# Altium footprint library NON-PCB.PCBLIB: 33 footprints (part 1 of 3)
Each footprint in its own frame and in the unit in brackets; x right, y up, seen from the top. Pads: shape width x height; smd on the part's side, far side on the other; paste and mask are expansions set on the pad; w line width, h text height; cw(c..) or ccw(c..) is an arc to the next point about the centre after c.
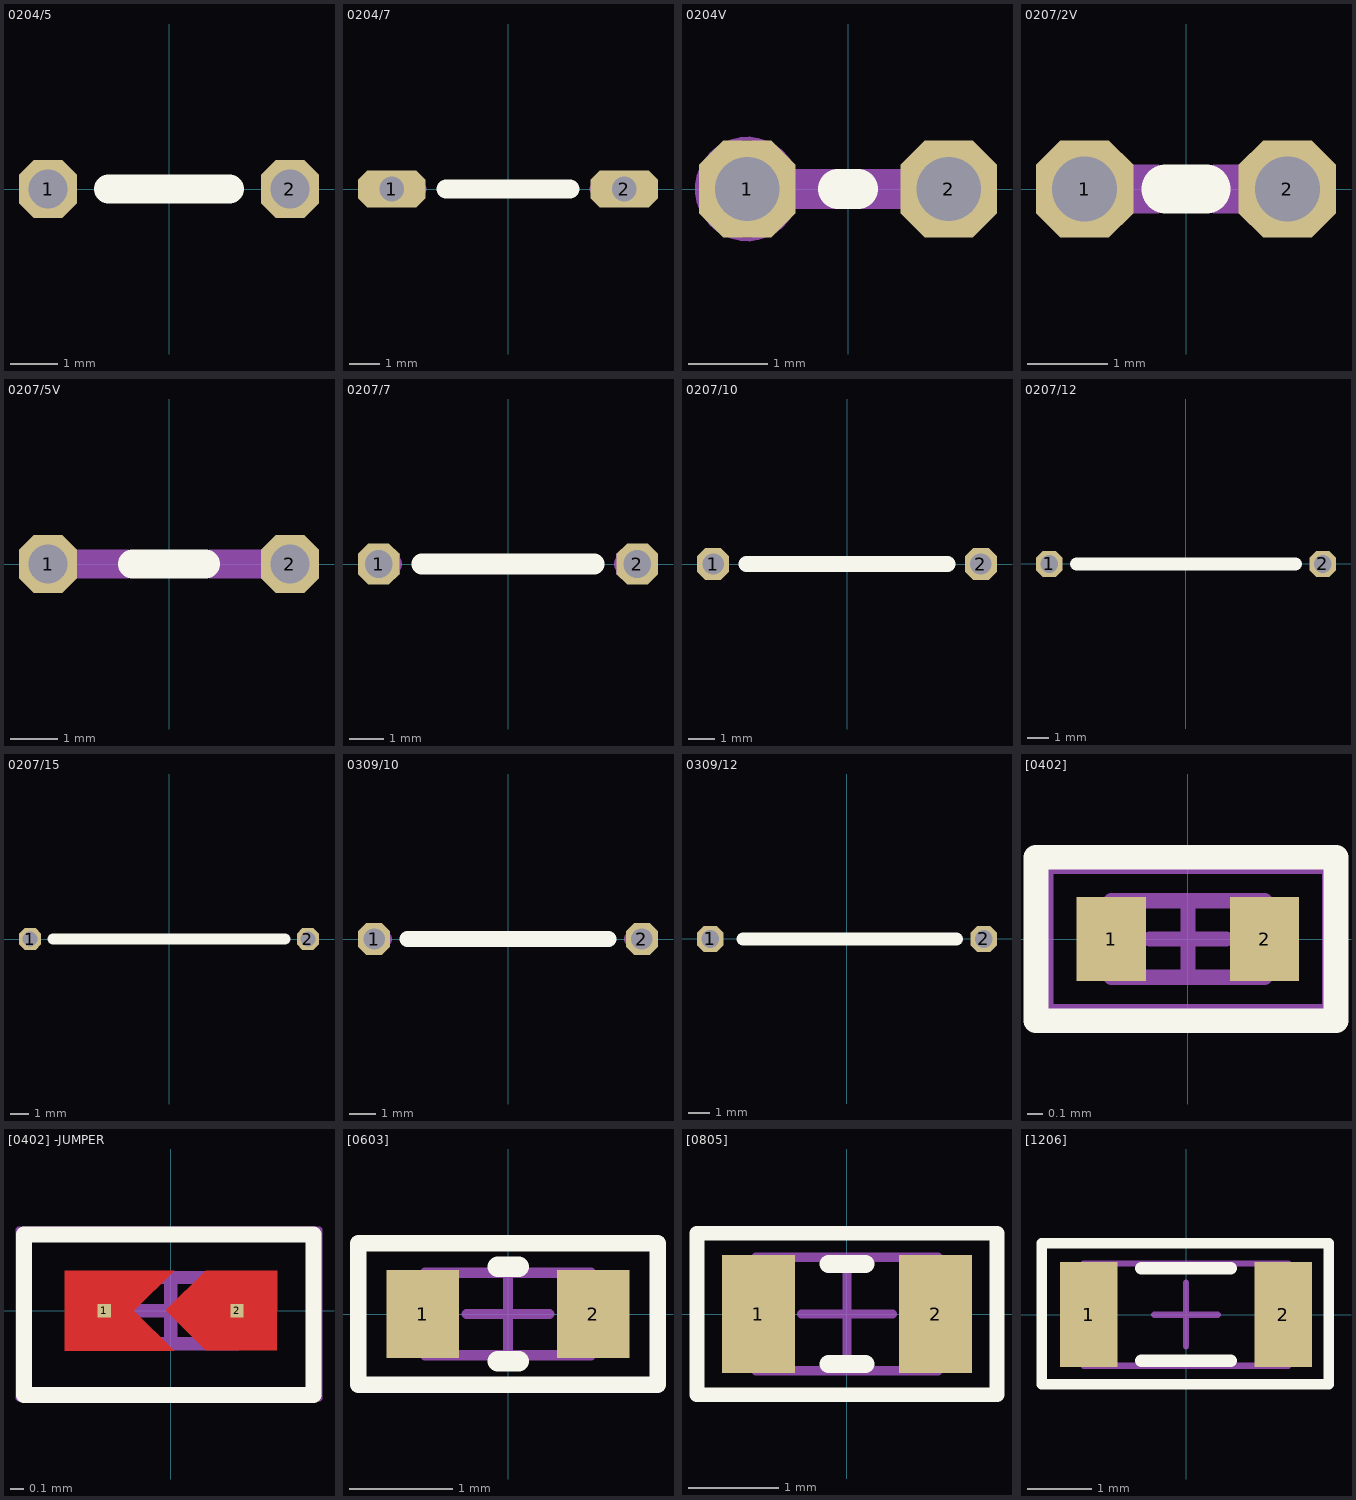
[diagram p0: the footprints below, top view; thin cyan lines are the x and y axes]

## 0204/5 [mil]
pads (2):
  oct 48x48 hole 32: 1(-100,0) 2(100,0)
Top Overlay:
  lines w24: -50,0 50,0

## 0204/7 [mil]
pads (2):
  oct 87.36x48 hole 32: 1(-150,0) 2(150,0)
Top Overlay:
  lines w24: -80,0 80,0
Mechanical 16:
  lines w20: -150,0 -115,0 ; 115,0 150,0

## 0204V [mil]
pads (2):
  oct 48x48 hole 32: 1(-50,0) 2(50,0)
Top Overlay:
  lines w20: -5,0 5,0
Mechanical 16:
  circle w2: c-50,0 r25
  lines w20: -50,0 50,0

## 0207/2V [mil]
pads (2):
  oct 48x48 hole 32: 1(-50,0) 2(50,0)
Top Overlay:
  lines w24: -10,0 10,0
Mechanical 16:
  lines w24: -50,0 -15,0 ; 15,0 50,0

## 0207/5V [mil]
pads (2):
  oct 48x48 hole 32: 1(-100,0) 2(100,0)
Top Overlay:
  lines w24: -30,0 30,0
Mechanical 16:
  lines w24: -100,0 -35,0 ; 35,0 100,0

## 0207/7 [mil]
pads (2):
  oct 48x48 hole 32: 1(-150,0) 2(150,0)
Top Overlay:
  lines w24: -100,0 100,0
Mechanical 16:
  rectangle: -135,-12 -125,12
  rectangle: 125,-12 135,12
  lines w24: -150,0 -135,0 ; 135,0 150,0

## 0207/10 [mil]
pads (2):
  oct 48x48 hole 32: 1(-200,0) 2(200,0)
Top Overlay:
  lines w24: -150,0 150,0

## 0207/12 [mil]
pads (2):
  oct 48x48 hole 32: 1(-250,0) 2(250,0)
Top Overlay:
  lines w24: -200,0 200,0

## 0207/15 [mil]
pads (2):
  oct 48x48 hole 32: 1(-300,0) 2(300,0)
Top Overlay:
  lines w24: -250,0 250,0

## 0309/10 [mil]
pads (2):
  oct 48x48 hole 32: 1(-200,0) 2(200,0)
Top Overlay:
  lines w24: -150,0 150,0
Mechanical 16:
  lines w24: -200,0 -185,0 ; 185,0 200,0

## 0309/12 [mil]
pads (2):
  oct 48x48 hole 32: 1(-250,0) 2(250,0)
Top Overlay:
  lines w24: -190,0 200,0

## [0402] [mm] "Chip Resistor, 2-Leads, Body 1,00x0,50mm, IPC Medium Density"
height 0.3
pads (2):
  rect 0.45x0.55 smd: 1(-0.5,0) 2(0.5,0)
Top Overlay:
  lines w0.16: -0.991,-0.533 0.965,-0.533 0.965,0.533 -0.991,0.533 -0.991,-0.533
Mechanical 13:
  lines w0.1: -0.5,-0.25 -0.5,0.25 0.5,0.25 0.5,-0.25 -0.5,-0.25
Mechanical 15:
  lines w0.05: -0.9,-0.45 -0.9,0.45 0.9,0.45 0.9,-0.45 -0.9,-0.45
  lines w0.1: -0.25,0 0.25,0 ; 0,-0.25 0,0.25

## [0402] -JUMPER [mm] "Chip Resistor, 2-Leads, Body 1,00x0,50mm, IPC Medium Density"
height 0.3
pads (2):
  rect 0.1x0.1 smd: 1(-0.5,0) 2(0.5,0)
Top Layer:
  region: 0.802,0.302 0.8,-0.298 0.265,-0.298 -0.037,0.002 0.263,0.302
  region: -0.797,0.302 -0.797,-0.303 0.026,-0.303 -0.276,0 0.026,0.302
Bottom Layer:
  region: -0.202,0.298
Top Overlay:
  lines w0.12: -1.104,-0.637 -1.104,0.575 1.075,0.575 1.075,-0.637 -1.104,-0.637
Mechanical 13:
  lines w0.1: -0.5,-0.25 0.5,-0.25 0.5,0.25 -0.5,0.25 -0.5,-0.25
Mechanical 15:
  lines w0.05: -1.143,-0.66 1.118,-0.66 1.118,0.61 -1.143,0.61 -1.143,-0.66
  lines w0.1: -0.25,0 0.25,0 ; 0,-0.25 0,0.25

## [0603] [mm] "Chip Resistor, 2-Leads, Body 1,60x0,80mm, IPC Medium Density"
height 0.5
pads (2):
  rect 0.7x0.85 smd: 1(-0.825,0) 2(0.825,0)
Top Overlay:
  lines w0.16: -1.448,-0.686 -1.448,0.686 1.448,0.686 1.448,-0.686 -1.448,-0.686
  lines w0.2: -0.098,-0.457 0.102,-0.457 ; -0.098,0.457 0.102,0.457
Mechanical 13:
  lines w0.1: -0.8,-0.4 0.8,-0.4 0.8,0.4 -0.8,0.4 -0.8,-0.4
Mechanical 15:
  lines w0.05: -1.45,-0.7 1.45,-0.7 1.45,0.7 -1.45,0.7 -1.45,-0.7
  lines w0.1: -0.4,0 0.4,0 ; 0,-0.4 0,0.4

## [0805] [mm] "Chip Resistor, 2-Leads, Body 2,00x1,25mm, IPC Medium Density"
height 0.5
pads (2):
  rect 0.8x1.3 smd: 1(-0.975,0) 2(0.975,0)
Top Overlay:
  lines w0.16: -1.651,-0.889 -1.651,0.889 1.651,0.889 1.651,-0.889 -1.651,-0.889
  lines w0.2: -0.2,-0.55 0.2,-0.55 ; -0.2,0.55 0.2,0.55
Mechanical 13:
  lines w0.1: -1,-0.625 -1,0.625 1,0.625 1,-0.625 -1,-0.625
Mechanical 15:
  lines w0.05: -1.65,-0.9 -1.65,0.9 1.65,0.9 1.65,-0.9 -1.65,-0.9
  lines w0.1: -0.5,0 0.5,0 ; 0,-0.5 0,0.5

## [1206] [mm] "Chip Resistor, 2-Leads, Body 3,20x1,60mm, IPC Medium Density"
height 0.55
pads (2):
  rect 0.9x1.65 smd: 1(-1.525,0) 2(1.525,0)
Top Overlay:
  lines w0.16: -2.261,-1.092 2.235,-1.092 2.235,1.118 -2.261,1.118 -2.261,-1.092
  lines w0.2: -0.7,-0.725 0.7,-0.725 ; -0.7,0.725 0.7,0.725
Mechanical 13:
  lines w0.1: -1.6,-0.8 1.6,-0.8 1.6,0.8 -1.6,0.8 -1.6,-0.8
Mechanical 15:
  lines w0.05: -2.25,-1.1 2.25,-1.1 2.25,1.1 -2.25,1.1 -2.25,-1.1
  lines w0.1: -0.5,0 0.5,0 ; 0,-0.5 0,0.5